# EAGLE library part TAYDA_36_4DIGIT_7S_LED (library L71_devices)
Tayda 0.36 7x4digit LED display
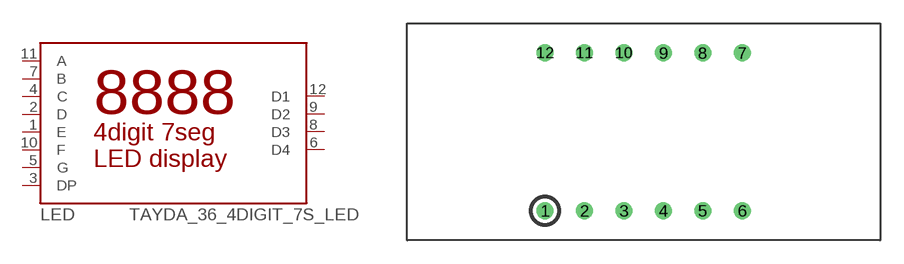
[diagram p3: symbol with the pads of TAYDA_36_4DIGIT_LED; footprint TAYDA_36_4DIGIT_LED]

Designator prefix LED

## TAYDA_36_4DIGIT_7S_LED  [TAYDA_36_4DIGIT_LED]
1  E
2  D
3  DP
4  C
5  G
6  D4
7  B
8  D3
9  D2
10  F
11  A
12  D1

## Footprint TAYDA_36_4DIGIT_LED (pad centres in mm)
drill 0.6: 1 -6.35,-5.08; 2 -3.81,-5.08; 3 -1.27,-5.08; 4 1.27,-5.08; 5 3.81,-5.08; 6 6.35,-5.08; 7 6.35,5.08; 8 3.81,5.08; 9 1.27,5.08; 10 -1.27,5.08; 11 -3.81,5.08; 12 -6.35,5.08